# EAGLE library part NRF52840 (library Nordic_nRF)
nRF52840 Features Advanced Single chip 2.4 GHz multi-protocol SoC 32-bit ARM Cortex-M4F Processor 1.7v to 5.5v operation 1MB flash + 256kB RAM Bluetooth 5 support for long range and high throughput 802.15.4 radio support On-chip NFC PPI –Programmable Peripheral Interconnect Automated power management system with automatic power management of each peripheral Configurable I/O mapping for analog and digital I/O 48 x GPIO 1 x QSPI 4 x Master/Slave SPI 2 x Two-wire interface (I²C) I²S interface 2 x UART 4 x PWM USB 2.0 controller ARM TrustZone CryptoCell-310 Cryptographic and security module AES 128-bit ECB/CCM/AAR hardware accelerator Digital microphone interface (PDM) Quadrature decoder 12-bit ADC Low power comparator On-chip 50Ω balun On-air compatible with nRF52, nRF51 and nRF24 Series Applications Advanced high performance wearables Wearables for secure payments Virtual Reality/Augmented Reality systems Smart Home sensor networks Smart city sensor networks High performance HID controllers Internet of Things (IoT) sensor networks Smart door locks Smart lighting networks Connected white goods
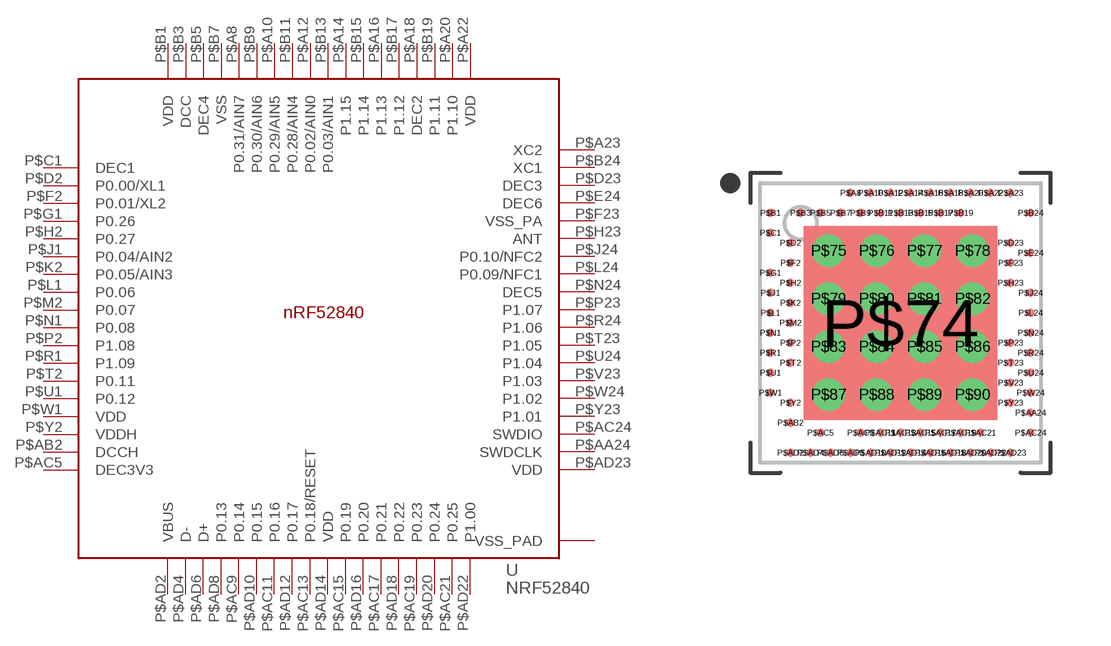
[diagram p5: symbol with the pads of AQFN50P700X700X85_HS-74N; footprint AQFN50P700X700X85_HS-74N]

Designator prefix -

## NRF52840  [AQFN50P700X700X85_HS-74N]
P$74  VSS_PAD
P$75  VSS_PAD
P$76  VSS_PAD
P$77  VSS_PAD
P$78  VSS_PAD
P$79  VSS_PAD
P$80  VSS_PAD
P$81  VSS_PAD
P$82  VSS_PAD
P$83  VSS_PAD
P$84  VSS_PAD
P$85  VSS_PAD
P$86  VSS_PAD
P$87  VSS_PAD
P$88  VSS_PAD
P$89  VSS_PAD
P$90  VSS_PAD
P$A8  P0.31/AIN7
P$A10  P0.29/AIN5
P$A12  P0.02/AIN0
P$A14  P1.15
P$A16  P1.13
P$A18  DEC2
P$A20  P1.10
P$A22  VDD  pwr
P$A23  XC2  out
P$AA24  SWDCLK  in
P$AB2  DCCH
P$AC5  DEC3V3
P$AC9  P0.14
P$AC11  P0.16
P$AC13  P0.18/RESET
P$AC15  P0.19
P$AC17  P0.21
P$AC19  P0.23
P$AC21  P0.25
P$AC24  SWDIO
P$AD2  VBUS  pwr
P$AD4  D-
P$AD6  D+
P$AD8  P0.13
P$AD10  P0.15
P$AD12  P0.17
P$AD14  VDD  pwr
P$AD16  P0.20
P$AD18  P0.22
P$AD20  P0.24
P$AD22  P1.00
P$AD23  VDD  pwr
P$B1  VDD  pwr
P$B3  DCC  out
P$B5  DEC4  pwr
P$B7  VSS  pwr
P$B9  P0.30/AIN6
P$B11  P0.28/AIN4
P$B13  P0.03/AIN1
P$B15  P1.14
P$B17  P1.12
P$B19  P1.11
P$B24  XC1  in
P$C1  DEC1  pwr
P$D2  P0.00/XL1
P$D23  DEC3
P$E24  DEC6
P$F2  P0.01/XL2
P$F23  VSS_PA
P$G1  P0.26
P$H2  P0.27
P$H23  ANT
P$J1  P0.04/AIN2
P$J24  P0.10/NFC2
P$K2  P0.05/AIN3
P$L1  P0.06
P$L24  P0.09/NFC1
P$M2  P0.07
P$N1  P0.08
P$N24  DEC5
P$P2  P1.08
P$P23  P1.07
P$R1  P1.09
P$R24  P1.06
P$T2  P0.11
P$T23  P1.05
P$U1  P0.12
P$U24  P1.04
P$V23  P1.03
P$W1  VDD  pwr
P$W24  P1.02
P$Y2  VDDH  pwr
P$Y23  P1.01

## Footprint AQFN50P700X700X85_HS-74N (pad centres in mm)
smd 4.85 x 4.85: P$74 0,0
drill 0.305 pad 0.6: P$75 -1.8,1.8; P$76 -0.6,1.8; P$77 0.6,1.8; P$78 1.8,1.8; P$79 -1.8,0.6; P$80 -0.6,0.6; P$81 0.6,0.6; P$82 1.8,0.6; P$83 -1.8,-0.6; P$84 -0.6,-0.6; P$85 0.6,-0.6; P$86 1.8,-0.6; P$87 -1.8,-1.8; P$88 -0.6,-1.8; P$89 0.6,-1.8; P$90 1.8,-1.8
smd 0.2 x 0.2: P$A8 -1.25,3.25; P$A10 -0.75,3.25; P$A12 -0.25,3.25; P$A14 0.25,3.25; P$A16 0.75,3.25; P$A18 1.25,3.25; P$A20 1.75,3.25; P$A22 2.25,3.25; P$A23 2.75,3.25; P$AA24 3.25,-2.25; P$AB2 -2.75,-2.5; P$AC5 -2,-2.75; P$AC9 -1,-2.75; P$AC11 -0.5,-2.75; P$AC13 0,-2.75; P$AC15 0.5,-2.75; P$AC17 1,-2.75; P$AC19 1.5,-2.75; P$AC21 2,-2.75; P$AC24 3.25,-2.75; P$AD2 -2.75,-3.25; P$AD4 -2.25,-3.25; P$AD6 -1.75,-3.25; P$AD8 -1.25,-3.25; P$AD10 -0.75,-3.25; P$AD12 -0.25,-3.25; P$AD14 0.25,-3.25; P$AD16 0.75,-3.25; P$AD18 1.25,-3.25; P$AD20 1.75,-3.25; P$AD22 2.25,-3.25; P$AD23 2.75,-3.25; P$B1 -3.25,2.75; P$B3 -2.5,2.75; P$B5 -2,2.75; P$B7 -1.5,2.75; P$B9 -1,2.75; P$B11 -0.5,2.75; P$B13 0,2.75; P$B15 0.5,2.75; P$B17 1,2.75; P$B19 1.5,2.75; P$B24 3.25,2.75; P$C1 -3.25,2.25; P$D2 -2.75,2; P$D23 2.75,2; P$E24 3.25,1.75; P$F2 -2.75,1.5; P$F23 2.75,1.5; P$G1 -3.25,1.25; P$H2 -2.75,1; P$H23 2.75,1; P$J1 -3.25,0.75; P$J24 3.25,0.75; P$K2 -2.75,0.5; P$L1 -3.25,0.25; P$L24 3.25,0.25; P$M2 -2.75,0; P$N1 -3.25,-0.25; P$N24 3.25,-0.25; P$P2 -2.75,-0.5; P$P23 2.75,-0.5; P$R1 -3.25,-0.75; P$R24 3.25,-0.75; P$T2 -2.75,-1; P$T23 2.75,-1; P$U1 -3.25,-1.25; P$U24 3.25,-1.25; P$V23 2.75,-1.5; P$W1 -3.25,-1.75; P$W24 3.25,-1.75; P$Y2 -2.75,-2; P$Y23 2.75,-2